# Altium schematic symbol library CB3LV-3I-14M7456.SchLib: 2 symbols
Pins are listed as number, name and electrical type; pins without a type are passive.

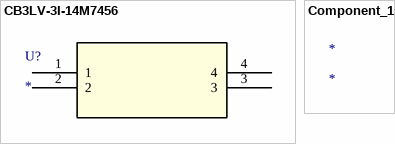
[diagram p0: symbols CB3LV-3I-14M7456 to Component_1]

## CB3LV-3I-14M7456
designator U?
No Description Available; Mfr_Name: CTS Components; RefDes: RefDes; Type: Type
footprint CRYS_CB3LV-3I-14M7456_CTS
pins: 1, 2, 3, 4

## Component_1
designator *